# Altium footprint library swarm_crawler_pcb.PcbLib: 39 footprints (part 1 of 3)
Each footprint in its own frame and in the unit in brackets; x right, y up, seen from the top. Pads: shape width x height; smd on the part's side, far side on the other; paste and mask are expansions set on the pad; w line width, h text height; cw(c..) or ccw(c..) is an arc to the next point about the centre after c.
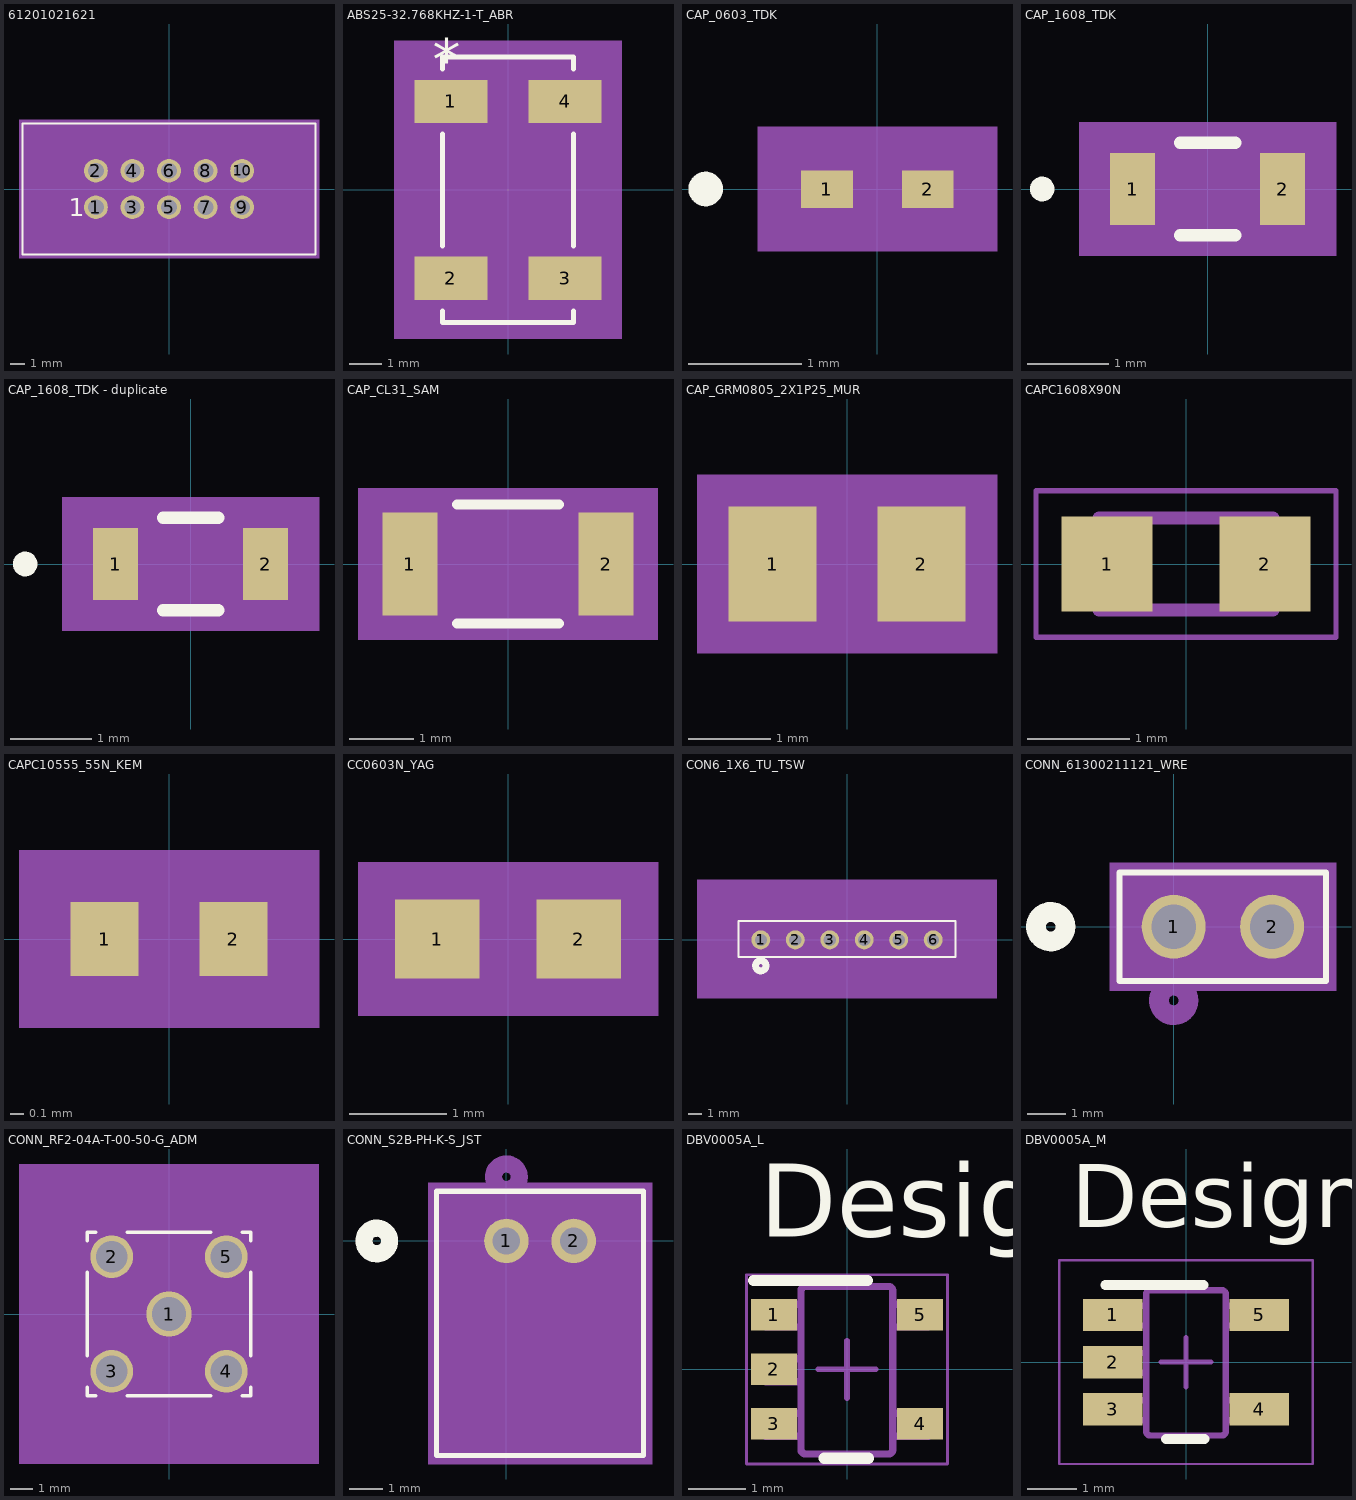
[diagram p0: the footprints below, top view; thin cyan lines are the x and y axes]

## 61201021621 [mm]
pads (10):
  round 1.65 hole 1.1: 1(-5.08,-1.27) 2(-5.08,1.27) 3(-2.54,-1.27) 4(-2.54,1.27) 5(0,-1.27) 6(0,1.27) 7(2.54,-1.27) 8(2.54,1.27) 9(5.08,-1.27) 10(5.08,1.27)
Top Overlay:
  lines w0.127: -10.18,-4.55 10.18,-4.55 10.18,4.55 -10.18,4.55 -10.18,-4.55
  text "1" at -6.985,-1.905 h1.27
Mechanical 13:
  text "1" at -6.985,-1.905 h1.27
  text "10" at 6.51,0.535 h1.27
Mechanical 15:
  region: 10.43,-4.8 -10.43,-4.8 -10.43,4.8 10.43,4.8

## ABS25-32.768KHZ-1-T_ABR [mil]
pads (4):
  rect 89x53 smd paste+0 mask+0: 1(-69.89,108.27) 2(-69.89,-108.27) 3(69.89,-108.27) 4(69.89,108.27)
Top Overlay:
  lines w6: -80,-147.87 -80,-162.5 80,-162.5 80,-147.87 ; -80,-68.67 -80,68.67 ; -80,147.87 -80,162.5 80,162.5 80,147.87 ; 80,-68.67 80,68.67
  text "*" at -92.39,134.77 h50
Mechanical 5:
  region: 139.39,-182.5 -139.39,-182.5 -139.39,182.5 139.39,182.5
Mechanical 13:
  lines w0: -12,157.5 ccw(c0,157.5) 12,157.5
  lines w1: -100.39,-133.77 -75,-133.77 -75,-82.77 -100.39,-82.77 -100.39,-133.77 ; -100.39,82.77 -75,82.77 -75,133.77 -100.39,133.77 -100.39,82.77 ; -75,-157.5 -75,157.5 75,157.5 75,-157.5 -75,-157.5 ; 75,-133.77 100.39,-133.77 100.39,-82.77 75,-82.77 75,-133.77 ; 75,82.77 100.39,82.77 100.39,133.77 75,133.77 75,82.77
  text "*" at -62.39,111.27 h50
Mechanical 15:
  region: -85,-128.27 -134.39,-128.27 -134.39,128.27 -85,128.27 -85,167.5 85,167.5 85,128.27 134.39,128.27 134.39,-128.27 85,-128.27 85,-167.5 -85,-167.5
  lines w6: -134.39,-128.27 -85,-128.27 -85,-167.5 85,-167.5 85,-128.27 134.39,-128.27 134.39,128.27 85,128.27 85,167.5 -85,167.5 -85,128.27 -134.39,128.27 -134.39,-128.27
3D body: height 10, standoff 0, extent 0,0 10,10

## CAP_0603_TDK [mil]
pads (2):
  rect 18x13 smd paste+0 mask+0: 1(-17.5,0) 2(17.5,0)
Top Overlay:
  circle w6: c-59.5,0 r3
Mechanical 5:
  region: 41.5,-21.5 -41.5,-21.5 -41.5,21.5 41.5,21.5
Mechanical 13:
  circle w0: c-12.5,0 r3
  lines w1: -12.5,-6.5 -12.5,6.5 ; -12.5,-6.5 12.5,-6.5 ; -12.5,-6.5 -8.5,-6.5 -8.5,6.5 -12.5,6.5 ; -12.5,-6.5 -12.5,6.5 ; -12.5,6.5 12.5,6.5 ; 12.5,-6.5 12.5,6.5 ; 12.5,-6.5 12.5,6.5 ; 12.5,-6.5 8.5,-6.5 8.5,6.5 12.5,6.5
Mechanical 15:
  region: 36.5,-16.5 -36.5,-16.5 -36.5,16.5 36.5,16.5
  lines w6: -36.5,-16.5 36.5,-16.5 36.5,16.5 -36.5,16.5 -36.5,-16.5
3D body "CAP_0603_TDK.step": height 12.99, standoff 0, extent -12.52,-6.5 12.52,6.5

## CAP_1608_TDK [mil]
pads (2):
  rect 22x35 smd paste+0 mask+0: 1(-36.5,0) 2(36.5,0)
Top Overlay:
  circle w6: c-80.5,0 r3
  lines w6: -13.39,-22.5 13.39,-22.5 ; -13.39,22.5 13.39,22.5
Mechanical 5:
  region: 62.5,-32.5 -62.5,-32.5 -62.5,32.5 62.5,32.5
Mechanical 13:
  circle w0: c-31.5,0 r3
  lines w1: -33.5,-17.5 -33.5,17.5 ; -33.5,-17.5 -25.5,-17.5 -25.5,17.5 -33.5,17.5 ; -33.5,-17.5 33.5,-17.5 ; -33.5,-17.5 -33.5,17.5 ; -33.5,17.5 33.5,17.5 ; 33.5,-17.5 25.5,-17.5 25.5,17.5 33.5,17.5 ; 33.5,-17.5 33.5,17.5 ; 33.5,-17.5 33.5,17.5
Mechanical 15:
  region: 57.5,-27.5 -57.5,-27.5 -57.5,27.5 57.5,27.5
  lines w6: -57.5,-27.5 -57.5,27.5 57.5,27.5 57.5,-27.5 -57.5,-27.5
3D body "CAP_1608_TDK.step": height 35, standoff 0, extent -33.5,-17.48 33.5,17.48

## CAP_1608_TDK - duplicate [mil]
pads (2):
  rect 22x35 smd paste+0 mask+0: 1(-36.5,0) 2(36.5,0)
Top Overlay:
  circle w6: c-80.5,0 r3
  lines w6: -13.39,-22.5 13.39,-22.5 ; -13.39,22.5 13.39,22.5
Mechanical 5:
  region: 62.5,-32.5 -62.5,-32.5 -62.5,32.5 62.5,32.5
Mechanical 13:
  circle w0: c-31.5,0 r3
  lines w1: -33.5,-17.5 -33.5,17.5 ; -33.5,-17.5 33.5,-17.5 ; -33.5,-17.5 -25.5,-17.5 -25.5,17.5 -33.5,17.5 ; -33.5,-17.5 -33.5,17.5 ; -33.5,17.5 33.5,17.5 ; 33.5,-17.5 33.5,17.5 ; 33.5,-17.5 33.5,17.5 ; 33.5,-17.5 25.5,-17.5 25.5,17.5 33.5,17.5
Mechanical 15:
  region: 57.5,-27.5 -57.5,-27.5 -57.5,27.5 57.5,27.5
  lines w6: -57.5,-27.5 57.5,-27.5 57.5,27.5 -57.5,27.5 -57.5,-27.5
3D body "CAP_1608_TDK.step": height 35, standoff 0, extent -33.5,-17.48 33.5,17.48

## CAP_CL31_SAM [mm]
pads (2):
  rect 0.856x1.6 smd paste+0 mask+0: 1(-1.528,0) 2(1.528,0)
Top Overlay:
  lines w0.152: -0.792,-0.927 0.792,-0.927 ; -0.792,0.927 0.792,0.927
Mechanical 5:
  region: 2.337,-1.181 -2.337,-1.181 -2.337,1.181 2.337,1.181
Mechanical 13:
  lines w0.025: -1.6,-0.8 -1.6,0.8 ; -1.6,-0.8 1.6,-0.8 ; -1.6,-0.8 -1.1,-0.8 -1.1,0.8 -1.6,0.8 ; -1.6,-0.8 -1.6,0.8 ; -1.6,0.8 1.6,0.8 ; 1.6,-0.8 1.6,0.8 ; 1.6,-0.8 1.6,0.8 ; 1.6,-0.8 1.1,-0.8 1.1,0.8 1.6,0.8
Mechanical 15:
  region: 2.21,-1.054 -2.21,-1.054 -2.21,1.054 2.21,1.054
  lines w0.152: -2.21,-1.054 2.21,-1.054 2.21,1.054 -2.21,1.054 -2.21,-1.054
3D body "CAP_CL31_SAM.step": height 1, standoff 0, extent -1.6,-0.8 1.6,0.8

## CAP_GRM0805_2X1P25_MUR [mil]
pads (2):
  rect 42x55 smd paste+0 mask+0: 1(-35.5,0) 2(35.5,0)
Mechanical 5:
  region: 71.5,-42.5 -71.5,-42.5 -71.5,42.5 71.5,42.5
Mechanical 13:
  lines w1: -42.5,-27.5 -42.5,27.5 ; -42.5,-27.5 -14.5,-27.5 -14.5,27.5 -42.5,27.5 ; -42.5,-27.5 42.5,-27.5 ; -42.5,-27.5 -42.5,27.5 ; -42.5,27.5 42.5,27.5 ; 42.5,-27.5 14.5,-27.5 14.5,27.5 42.5,27.5 ; 42.5,-27.5 42.5,27.5 ; 42.5,-27.5 42.5,27.5
Mechanical 15:
  region: 66.5,-37.5 -66.5,-37.5 -66.5,37.5 66.5,37.5
  lines w6: -66.5,-37.5 -66.5,37.5 66.5,37.5 66.5,-37.5 -66.5,-37.5
3D body "CAP_GRM0805_2X1P25_MUR.step": height 55, standoff 0, extent -42.52,-27.48 42.52,27.48

## CAPC1608X90N [mm]
pads (2):
  rect 0.89x0.93 smd: 1(-0.77,0) 2(0.77,0)
Mechanical 13:
  lines w0.127: -0.85,-0.45 -0.85,0.45 0.85,0.45 0.85,-0.45 -0.85,-0.45
Mechanical 15:
  lines w0.05: -1.465,-0.715 -1.465,0.715 1.465,0.715 1.465,-0.715 -1.465,-0.715
3D body "step_temp.STEP": height 0.9, standoff 0, extent -0.8,-0.4 0.8,0.4

## CAPC10555_55N_KEM [mm]
pads (2):
  rect 0.503x0.55 smd paste+0 mask+0: 1(-0.477,0) 2(0.477,0)
Mechanical 5:
  region: 1.109,-0.656 -1.109,-0.656 -1.109,0.656 1.109,0.656
Mechanical 13:
  lines w0.025: -0.525,-0.275 -0.525,0.275 ; -0.525,-0.275 -0.275,-0.275 -0.275,0.275 -0.525,0.275 ; -0.525,-0.275 0.525,-0.275 ; -0.525,-0.275 -0.525,0.275 ; -0.525,0.275 0.525,0.275 ; 0.525,-0.275 0.275,-0.275 0.275,0.275 0.525,0.275 ; 0.525,-0.275 0.525,0.275 ; 0.525,-0.275 0.525,0.275
Mechanical 15:
  region: 0.881,-0.427 -0.881,-0.427 -0.881,0.427 0.881,0.427
  lines w0.152: -0.881,-0.427 -0.881,0.427 0.881,0.427 0.881,-0.427 -0.881,-0.427
3D body "CAPC10555_55N_KEM.step": height 0.55, standoff 0, extent -0.525,-0.275 0.525,0.275

## CC0603N_YAG [mil]
pads (2):
  rect 34x32 smd paste+0 mask+0: 1(-28.5,0) 2(28.5,0)
Mechanical 5:
  region: 60.5,-31 -60.5,-31 -60.5,31 60.5,31
Mechanical 13:
  lines w1: -31.5,-16 -31.5,16 ; -31.5,-16 31.5,-16 ; -31.5,-16 -11.5,-16 -11.5,16 -31.5,16 ; -31.5,-16 -31.5,16 ; -31.5,16 31.5,16 ; 31.5,-16 31.5,16 ; 31.5,-16 31.5,16 ; 31.5,-16 11.5,-16 11.5,16 31.5,16
Mechanical 15:
  region: 55.5,-26 -55.5,-26 -55.5,26 55.5,26
  lines w6: -55.5,-26 55.5,-26 55.5,26 -55.5,26 -55.5,-26
3D body "CC0603N_YAG.step": height 27.99, standoff 0, extent -31.5,-15.98 31.5,15.98

## CON6_1X6_TU_TSW [mil]
pads (6):
  round 55 hole 35 mask+0: 1(-250,0) 2(-150,0) 3(-50,0) 4(50,0) 5(150,0) 6(250,0)
Top Overlay:
  circle w20: c-250,-75 r15
  lines w6: -315,-50 -315,55 315,55 315,-50 -315,-50
Bottom Overlay:
  circle w20: c-250,-75 r15
Mechanical 5:
  region: -435,175 435,175 435,-170 -435,-170
Mechanical 13:
  circle w0: c-250,0 r10
  lines w1: -310,-45 -310,50 310,50 310,-45 -310,-45
Mechanical 15:
  region: 320,60 300,60 300,102 -300,102 -300,60 -320,60 -320,-55 -300,-55 -300,-102 300,-102 300,-55 320,-55
  lines w6: -320,-55 -300,-55 -300,-102 300,-102 300,-55 320,-55 320,60 300,60 300,102 -300,102 -300,60 -320,60 -320,-55
3D body "CON6_1X6_TU_TSW.step": height 500, standoff 0, extent -300,-50 300,50

## CONN_61300211121_WRE [mil]
pads (2):
  round 65 hole 45 mask+0: 1(0,0) 2(100,0)
Top Overlay:
  circle w20: c-125,0 r15
  lines w6: -55,-55 -55,55 155,55 155,-55 -55,-55
Bottom Overlay:
  circle w20: c-125,0 r15
Mechanical 5:
  region: -65,65 165,65 165,-65 -65,-65
Mechanical 13:
  circle w20: c0,-75 r15
  lines w1: -50,-50 -50,50 150,50 150,-50 -50,-50
Mechanical 15:
  region: 160,60 -60,60 -60,-60 160,-60
  lines w6: -60,-60 160,-60 160,60 -60,60 -60,-60
3D body: height 10, standoff 0, extent 0,0 10,10

## CONN_RF2-04A-T-00-50-G_ADM [mil]
pads (5):
  round 79 hole 59: 1(0,0)
  round 75 hole 55 mask+0: 2(-100.5,100.5) 3(-100.5,-100.5) 4(100.5,-100.5) 5(100.5,100.5)
Top Overlay:
  lines w6: -143,-127.96 -143,-143 -127.96,-143 ; -143,-73.04 -143,73.04 ; -143,127.96 -143,143 -127.96,143 ; -73.04,-143 73.04,-143 ; -73.04,143 73.04,143 ; 127.96,-143 143,-143 143,-127.96 ; 127.96,143 143,143 143,127.96 ; 143,-73.04 143,73.04
Mechanical 5:
  region: -263,263 263,263 263,-263 -263,-263
Mechanical 13:
  lines w1: -138,-138 138,-138 138,138 -138,138 -138,-138
Mechanical 15:
  region: 143,-143 -143,-143 -143,143 143,143
  lines w6: -143,-143 -143,143 143,143 143,-143 -143,-143
3D body: height 10, standoff 0, extent 0,0 10,10

## CONN_S2B-PH-K-S_JST [mil]
pads (2):
  round 52 hole 32 mask+0: 1(0,0) 2(78.74,0)
Top Overlay:
  circle w20: c-151.63,0 r15
  lines w6: -81.63,-250.85 -81.63,58.15 160.37,58.15 160.37,-250.85 -81.63,-250.85
Bottom Overlay:
  circle w20: c-151.63,0 r15
Mechanical 5:
  region: -91.63,68.15 170.37,68.15 170.37,-260.85 -91.63,-260.85
Mechanical 13:
  circle w20: c0,75 r15
  lines w1: -76.63,-245.85 -76.63,53.15 155.37,53.15 155.37,-245.85 -76.63,-245.85
Mechanical 15:
  region: 165.37,63.15 -86.63,63.15 -86.63,-255.85 165.37,-255.85
  lines w6: -86.63,-255.85 165.37,-255.85 165.37,63.15 -86.63,63.15 -86.63,-255.85
3D body: height 10, standoff 0, extent 0,0 10,10

## DBV0005A_L [mm]
pads (5):
  rect 0.8x0.55 smd paste+0 mask+0.051: 1(-1.275,0.95) 2(-1.275,0) 3(-1.275,-0.95) 4(1.275,-0.95) 5(1.275,0.95)
Top Overlay:
  lines w0.2: -1.625,1.55 0.35,1.55 ; -0.4,-1.55 0.375,-1.55
  text "Designator730" at -1.524,2.311 h1.27
Mechanical 13:
  lines w0.127: -0.801,1.371 cw(c-0.725,1.37) -0.725,1.446 ; -0.801,1.37 -0.801,-1.399 -0.801,-1.4 ccw(c-0.725,-1.399) -0.725,-1.475 ; -0.801,1.37 -0.801,1.371 ; -0.725,-1.475 -0.725,-1.475 ; -0.725,-1.475 0.723,-1.475 0.724,-1.475 ccw(c0.723,-1.399) 0.799,-1.4 0.799,-1.399 0.799,1.37 ; -0.725,1.446 0.723,1.446 0.724,1.446 cw(c0.723,1.37) 0.799,1.371 ; -0.725,1.446 -0.725,1.446 ; 0.799,1.37 0.799,1.371 ; -1.423,-1.167 -1.199,-1.167 -1.105,-1.167 -1.088,-1.167 -0.835,-1.167 -0.801,-1.167 -0.801,-0.767 -0.835,-0.767 -1.088,-0.767 -1.105,-0.767 -1.199,-0.767 -1.423,-0.767 -1.423,-1.167 ; -1.423,-0.215 -1.199,-0.215 -1.105,-0.215 -1.088,-0.215 -0.835,-0.215 -0.801,-0.215 -0.801,0.186 -0.835,0.186 -1.088,0.186 -1.105,0.186 -1.199,0.186 -1.423,0.186 -1.423,-0.215 ; -1.423,0.738 -1.199,0.738 -1.105,0.738 -1.088,0.738 -0.835,0.738 -0.801,0.738 -0.801,1.138 -0.835,1.138 -1.088,1.138 -1.105,1.138 -1.199,1.138 -1.423,1.138 -1.423,0.738 ; 0.799,-1.167 0.799,-0.767 0.834,-0.767 1.087,-0.767 1.103,-0.767 1.198,-0.767 1.422,-0.767 1.422,-1.167 1.198,-1.167 1.103,-1.167 1.087,-1.167 0.834,-1.167 0.799,-1.167 ; 0.799,0.738 0.799,1.138 0.834,1.138 1.087,1.138 1.103,1.138 1.198,1.138 1.422,1.138 1.422,0.738 1.198,0.738 1.103,0.738 1.087,0.738 0.834,0.738 0.799,0.738
  text ".Designator" at -0.885,0.95 h1.27
Mechanical 15:
  lines w0.05: -1.75,-1.65 -1.75,1.65 1.75,1.65 1.75,-1.65 -1.75,-1.65
  lines w0.1: -0.5,0 0.5,0 ; 0,-0.5 0,0.5
3D body: height 0.25, standoff 0, extent 0,0 0.254,0.254

## DBV0005A_M [mm]
pads (5):
  rect 1.2x0.65 smd paste+0 mask+0.051: 1(-1.475,0.95) 2(-1.475,0) 3(-1.475,-0.95) 4(1.475,-0.95) 5(1.475,0.95)
Top Overlay:
  lines w0.2: -1.625,1.55 0.35,1.55 ; -0.4,-1.55 0.375,-1.55
  text "Designator731" at -2.311,2.718 h1.27
Mechanical 13:
  lines w0.127: -0.801,1.371 cw(c-0.725,1.37) -0.725,1.446 ; -0.801,1.37 -0.801,-1.399 -0.801,-1.4 ccw(c-0.725,-1.399) -0.725,-1.475 ; -0.801,1.37 -0.801,1.371 ; -0.725,-1.475 -0.725,-1.475 ; -0.725,-1.475 0.723,-1.475 0.724,-1.475 ccw(c0.723,-1.399) 0.799,-1.4 0.799,-1.399 0.799,1.37 ; -0.725,1.446 0.723,1.446 0.724,1.446 cw(c0.723,1.37) 0.799,1.371 ; -0.725,1.446 -0.725,1.446 ; 0.799,1.37 0.799,1.371 ; -1.423,-1.167 -1.199,-1.167 -1.105,-1.167 -1.088,-1.167 -0.835,-1.167 -0.801,-1.167 -0.801,-0.767 -0.835,-0.767 -1.088,-0.767 -1.105,-0.767 -1.199,-0.767 -1.423,-0.767 -1.423,-1.167 ; -1.423,-0.215 -1.199,-0.215 -1.105,-0.215 -1.088,-0.215 -0.835,-0.215 -0.801,-0.215 -0.801,0.186 -0.835,0.186 -1.088,0.186 -1.105,0.186 -1.199,0.186 -1.423,0.186 -1.423,-0.215 ; -1.423,0.738 -1.199,0.738 -1.105,0.738 -1.088,0.738 -0.835,0.738 -0.801,0.738 -0.801,1.138 -0.835,1.138 -1.088,1.138 -1.105,1.138 -1.199,1.138 -1.423,1.138 -1.423,0.738 ; 0.799,-1.167 0.799,-0.767 0.834,-0.767 1.087,-0.767 1.103,-0.767 1.198,-0.767 1.422,-0.767 1.422,-1.167 1.198,-1.167 1.103,-1.167 1.087,-1.167 0.834,-1.167 0.799,-1.167 ; 0.799,0.738 0.799,1.138 0.834,1.138 1.087,1.138 1.103,1.138 1.198,1.138 1.422,1.138 1.422,0.738 1.198,0.738 1.103,0.738 1.087,0.738 0.834,0.738 0.799,0.738
  text ".Designator" at -0.885,0.95 h1.27
Mechanical 15:
  lines w0.05: -2.55,-2.05 -2.55,2.05 2.55,2.05 2.55,-2.05 -2.55,-2.05
  lines w0.1: -0.5,0 0.5,0 ; 0,-0.5 0,0.5
3D body: height 0.25, standoff 0, extent 0,0 0.254,0.254